# Altium footprint library CYPCBLIB.PcbLib: 185 footprints (part 4 of 12)
Each footprint in its own frame and in the unit in brackets; x right, y up, seen from the top. Pads: shape width x height; smd on the part's side, far side on the other; paste and mask are expansions set on the pad; w line width, h text height; cw(c..) or ccw(c..) is an arc to the next point about the centre after c.
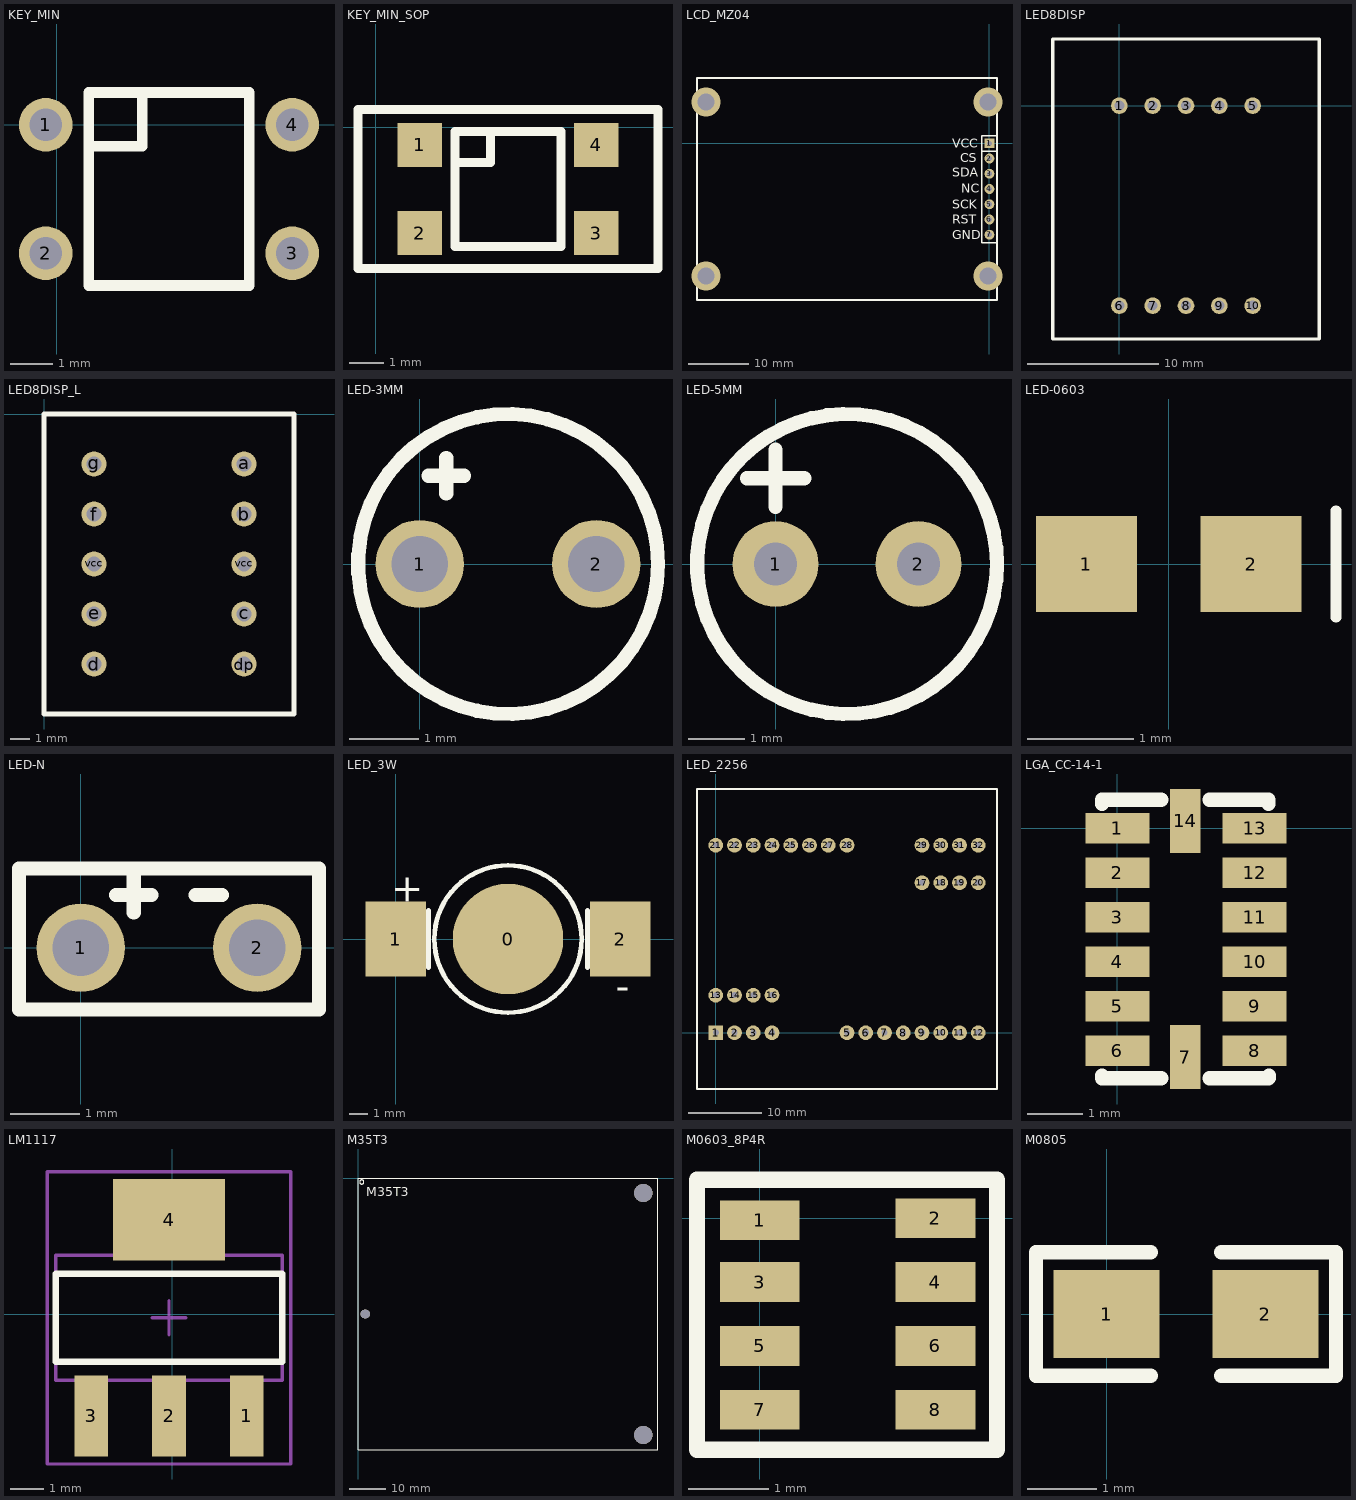
[diagram p3: the footprints below, top view; thin cyan lines are the x and y axes]

## KEY_MIN [mil]
pads (4):
  round 50 hole 30: 1(-10,0) 2(-10,-120) 3(220,-120) 4(220,0)
TopOverlay:
  lines w10: 30,-20 80,-20 80,30 ; 30,-150 180,-150 180,30 30,30 30,-150

## KEY_MIN_SOP [mil]
pads (4):
  rect 50x50 smd: 1(50,-20) 2(50,-120) 3(250,-120) 4(250,-20)
TopOverlay:
  lines w10: 90,-40 130,-40 130,-5 ; -20,-160 320,-160 320,20 -20,20 -20,-160 ; 90,-135 210,-135 210,-5 90,-5 90,-135

## LCD_MZ04 [mil]
pads (7):
  rect 65x65 hole 33: 1(0,0)
  round 65 hole 33: 2(0,-100) 3(0,-200) 4(0,-300) 5(0,-400) 6(0,-500) 7(0,-600)
via -9.05,-870.87 diameter 188.98 hole 114.17
via -9.05,270.87 diameter 188.98 hole 114.17
via -1859.45,270.87 diameter 188.98 hole 114.17
via -1859.45,-870.87 diameter 188.98 hole 114.17
TopOverlay:
  lines w10: -50,-652 50,-652 ; -50,-651 -50,49 50,49 ; -50,-53 50,-53 ; -1918.5,-1028.35 -1918.5,428.35 50,428.35 50,-1028.35 -1918.5,-1028.35
  text "VCC" at -245,-28 h60
  text "CS" at -191,-124 h60
  text "SDA" at -245,-219 h60
  text "SCK" at -245,-429 h60
  text "RST" at -243,-528 h60
  text "GND" at -245,-631 h60
  text "NC" at -185,-324 h60

## LED8DISP [mil]
pads (10):
  round 50 hole 30: 1(0,0) 2(100,0) 3(200,0) 4(300,0) 5(400,0) 6(0,-600) 7(100,-600) 8(200,-600) 9(300,-600) 10(400,-600)
TopOverlay:
  lines w10: -200,-700 -200,200 600,200 600,-700 -200,-700

## LED8DISP_L [mil]
pads (10):
  round 50 hole 30: a(400,-100) b(400,-200) c(400,-400) d(100,-500) dp(400,-500) e(100,-400) f(100,-200) g(100,-100) vcc(100,-300) vcc(400,-300)
TopOverlay:
  lines w10: 0,-600 500,-600 500,0 0,0 0,-600

## LED-3MM [mil]
pads (2):
  round 50 hole 32: 1(0,0) 2(100,0)
TopOverlay:
  circle w8: c50,0 r85
  lines w8: 5,50 25,50 ; 15,40 15,60

## LED-5MM [mil]
pads (2):
  round 60 hole 30: 1(0,0) 2(100,0)
TopOverlay:
  circle w10: c50,0 r105
  lines w10: -20,60 20,60 ; 0,40 0,80

## LED-0603 [mm] "Chip Capacitor, 2-Leads, Body 1.6x0.8mm, IPC Medium Density"
height 0.55
pads (2):
  rect 0.95x0.9 smd: 1(-0.775,0) 2(0.775,0)
TopOverlay:
  lines w0.1: 1.575,-0.5 1.575,0.5

## LED-N [mil]
pads (2):
  round 50 hole 32: 1(0,0) 2(100,0)
TopOverlay:
  lines w8: 20,30 40,30 ; 30,20 30,40 ; 65,30 80,30 ; -35,-35 -35,45 135,45 135,-35 -35,-35

## LED_3W [mm]
pads (3):
  round 6 smd: 0(6.096,0)
  rect 3.3x4.1 smd: 1(0,0) 2(12.192,0)
TopOverlay:
  circle w0.254: c6.096,0 r4
  lines w0.254: 1.778,-1.55 1.778,1.55 ; 10.414,-1.55 10.414,1.55
  text "-" at 11.938,-3.302 h1.52
  text "+" at -0.254,2.032 h1.52

## LED_2256 [mm]
pads (32):
  rect 2x2 hole 0.813: 1(0,0)
  round 2 hole 0.813: 2(2.54,0) 3(5.08,0) 4(7.62,0) 5(17.78,0) 6(20.32,0) 7(22.86,0) 8(25.4,0) 9(27.94,0) 10(30.48,0) 11(33.02,0) 12(35.56,0) 13(0,5.08) 14(2.54,5.08) 15(5.08,5.08) 16(7.62,5.08) 17(27.94,20.32) 18(30.48,20.32) 19(33.02,20.32) 20(35.56,20.32) 21(0,25.4) 22(2.54,25.4) 23(5.08,25.4) 24(7.62,25.4) 25(10.16,25.4) 26(12.7,25.4) 27(15.24,25.4) 28(17.78,25.4) 29(27.94,25.4) 30(30.48,25.4) 31(33.02,25.4) 32(35.56,25.4)
TopOverlay:
  lines w0.254: -2.54,-7.62 38.1,-7.62 38.1,33.02 -2.54,33.02 -2.54,-7.62

## LGA_CC-14-1 [mm]
height 1
pads (14):
  rect 1.15x0.55 smd mask+0.025: 1(0,0) 2(0,-0.8) 3(0,-1.6) 4(0,-2.4) 5(0,-3.2) 6(0,-4) 8(2.462,-4) 9(2.462,-3.2) 10(2.462,-2.4) 11(2.462,-1.6) 12(2.462,-0.8) 13(2.462,0)
  rect 0.55x1.15 smd mask+0.025: 7(1.219,-4.115) 14(1.219,0.127)
TopOverlay:
  lines w0.254: -0.279,0.432 -0.279,0.508 0.786,0.508 ; -0.278,-4.449 -0.278,-4.496 0.787,-4.496 ; 1.651,-4.496 2.717,-4.496 2.721,-4.492 2.721,-4.445 ; 1.651,0.508 2.717,0.508 2.717,0.432

## LM1117 [mm] "SOT223"
height 1.8
pads (4):
  rect 1x2.4 smd: 1(2.2,-3) 2(-0.1,-3) 3(-2.4,-3)
  rect 3.3x2.4 smd: 4(-0.1,2.8)
TopOverlay:
  lines w0.2: -3.45,-1.4 3.25,-1.4 3.25,1.2 -3.45,1.2 -3.45,-1.4
Mechanical13:
  lines w0.1: -3.45,-1.95 3.25,-1.95 3.25,1.75 -3.45,1.75 -3.45,-1.95
Mechanical15:
  lines w0.1: -0.6,-0.1 0.4,-0.1 ; -0.1,-0.6 -0.1,0.4 ; -3.7,-4.425 3.5,-4.425 3.5,4.225 -3.7,4.225 -3.7,-4.425
3D body: height 1.8, standoff 0.02, extent -3.45,-1.95 3.25,1.75

## M35T3 [mil]
via 3070.87,-157.48 diameter 196.85 hole 196.85
via 3070.87,-2763.78 diameter 196.85 hole 196.85
via 78.74,-1460.63 diameter 98.43 hole 98.43
TopOverlay:
  circle w10: c39.95,-40.1 r22.36
  lines w10: 0,-2921.26 3228.35,-2921.26 3228.35,0 0,0 0,-2921.26
  text "M35T3" at 87,-194 h98.43

## M0603_8P4R [mm]
pads (8):
  rect 1x0.5 smd: 1(0,-0.025) 2(2.2,0) 3(0,-0.8) 4(2.2,-0.8) 5(0,-1.6) 6(2.2,-1.6) 7(0,-2.4) 8(2.2,-2.4)
TopOverlay:
  lines w0.203: -0.787,-2.9 -0.787,0.483 2.972,0.483 2.972,-2.9 -0.787,-2.9

## M0805 [mil]
pads (2):
  rect 60x50 smd: 1(0,0) 2(90,0)
TopOverlay:
  lines w8: 25,-35 -40,-35 -40,35 25,35 ; 65,-35 130,-35 130,35 65,35